# Altium footprint library LED_Hat_Library.PcbLib: 4 footprints
Each footprint in its own frame and in the unit in brackets; x right, y up, seen from the top. Pads: shape width x height; smd on the part's side, far side on the other; paste and mask are expansions set on the pad; w line width, h text height; cw(c..) or ccw(c..) is an arc to the next point about the centre after c.
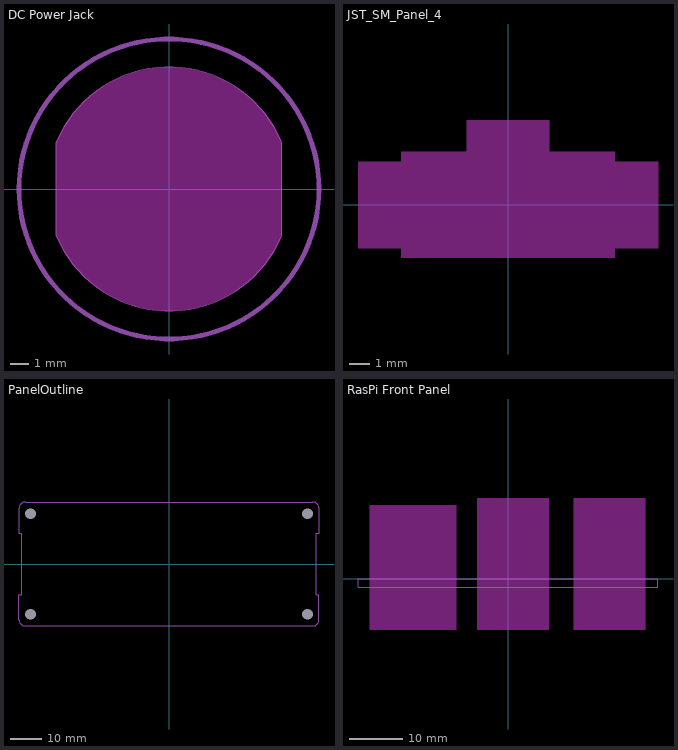
[diagram p0: the footprints below, top view; thin cyan lines are the x and y axes]

## DC Power Jack [mm]
Keep-Out Layer:
  board cut-out: -6,-2.5 -6,2.5 -5.853,2.853 -5.478,3.52 -5.027,4.139 -4.506,4.7 -3.924,5.196 -3.287,5.621 -2.605,5.967 -1.887,6.232 -1.143,6.41 -0.383,6.5 0.383,6.5 1.143,6.41 1.887,6.232 2.605,5.967 3.287,5.621 3.924,5.196 4.506,4.7 5.027,4.139 5.478,3.52 5.853,2.853 6,2.5 6,-2.5 5.853,-2.853 5.478,-3.52 5.027,-4.139 4.506,-4.7 3.924,-5.196 3.287,-5.621 2.605,-5.967 1.887,-6.232 1.143,-6.41 0.383,-6.5 -0.383,-6.5 -1.143,-6.41 -1.887,-6.232 -2.605,-5.967 -3.287,-5.621 -3.924,-5.196 -4.506,-4.7 -5.027,-4.139 -5.478,-3.52 -5.853,-2.853
Mechanical 1:
  circle w0.254: c0,0 r8
  lines w0.025: -6,-2.5 ccw(c0,0) 6,-2.5 6,2.5 ccw(c0,0) -6,2.5 -6,-2.5

## JST_SM_Panel_4 [mm]
Keep-Out Layer:
  board cut-out: 0,-2.65 -5.35,-2.65 -5.35,-2.15 -7.5,-2.15 -7.5,2.15 -5.35,2.15 -5.35,2.65 -2.075,2.65 -2.075,4.25 0,4.25 0,0.025
  board cut-out: 0,-2.65 5.35,-2.65 5.35,-2.15 7.5,-2.15 7.5,2.15 5.35,2.15 5.35,2.65 2.075,2.65 2.075,4.25 0,4.25 0,0.025

## PanelOutline [mm] "https://www.amazon.com/gp/product/B010DHQPVW"
pads (4):
  round 0 hole 3.5: C10(-44.75,-16.25) C10(-44.75,16.25) C10(44.75,-16.25) C10(44.75,16.25)
Mechanical 1:
  lines w0.229: -48.45,-18 ccw(c-46.45,-18) -46.45,-20 42,-20 46.45,-20 ccw(c46.45,-18) 48.45,-18 48.45,-10 47.5,-10 47.5,10 48.45,10 48.45,18 ccw(c46.45,18) 46.45,20 -46.45,20 ccw(c-46.45,18) -48.45,18 -48.45,10 -47.5,10 -47.5,-10 -48.45,-10 -48.45,-18

## RasPi Front Panel [mm]
Keep-Out Layer:
  board cut-out: 12.3,0 12.3,15 25.6,15 25.6,0
  board cut-out: -5.7,0 -5.7,15 7.6,15 7.6,0
  board cut-out: -25.8,0 -25.8,13.7 -9.7,13.7 -9.7,0
  board cut-out: 12.3,-9.5 12.3,0 25.6,0 25.6,-9.5
  board cut-out: -5.7,-9.5 -5.7,0 7.6,0 7.6,-9.5
  board cut-out: -25.8,-9.5 -25.8,0 -9.7,0 -9.7,-9.5
Mechanical 1:
  lines w0.05: -28,-1.6 -28,0 28,0 28,-1.6 -28,-1.6